# Altium footprint library SnapEDApcb.PcbLib: 1 footprints
Each footprint in its own frame and in the unit in brackets; x right, y up, seen from the top. Pads: shape width x height; smd on the part's side, far side on the other; paste and mask are expansions set on the pad; w line width, h text height; cw(c..) or ccw(c..) is an arc to the next point about the centre after c.
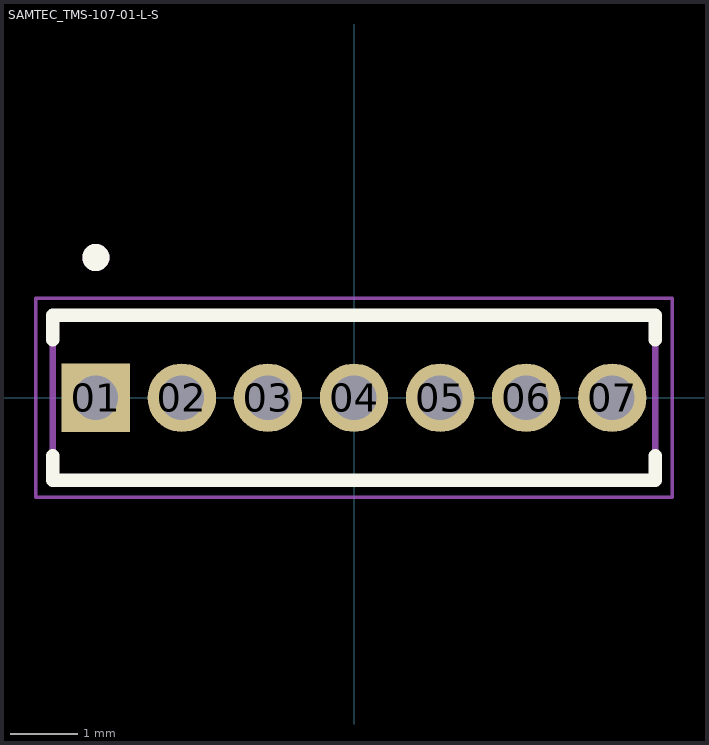
[diagram p0: the footprint, top view; thin cyan lines are the x and y axes]

## SAMTEC_TMS-107-01-L-S [mm]
pads (7):
  rect 1.01x1.01 hole 0.66: 01(-3.81,0)
  round 1.01 hole 0.66: 02(-2.54,0) 03(-1.27,0) 04(0,0) 05(1.27,0) 06(2.54,0) 07(3.81,0)
Top Overlay:
  circle w0.2: c-3.81,2.069 r0.1
  lines w0.2: -4.445,-0.855 -4.445,-1.219 4.445,-1.219 4.445,-0.855 ; -4.445,0.855 -4.445,1.219 4.445,1.219 4.445,0.855
Mechanical 13:
  circle w0.2: c-3.81,2.069 r0.1
  lines w0.1: -4.445,-1.219 -4.445,1.219 4.445,1.219 4.445,-1.219 -4.445,-1.219
Mechanical 15:
  lines w0.05: -4.695,-1.469 4.695,-1.469 4.695,1.469 -4.695,1.469 -4.695,-1.469